# Altium schematic symbol library MAX840.SchLib: 1 symbol
Pins are listed as number, name and electrical type; pins without a type are passive.

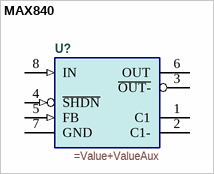
[diagram p0: symbol MAX840]

## MAX840
designator U?
=Description
pins: 1 C1, 2 C1-, 3 ~{OUT-} (power), 4 ~{SHDN} (in), 5 FB (in), 6 OUT (power), 7 GND (power), 8 IN (in)